# EAGLE library part WE-RJ45_7498111120AR (library WE-RJ45_LAN)
WE-RJ45 LAN Transformer Characteristics RJ45 Connector with integrated transformer / common mode choke Power over Ethernet up to 50 Watt and speeds up to 10 Gbit/s Available in SMD, THT and THT with USB Compliant with standards: IEEE 802.3u, IEEE 802.3ab, IEEE 802.3af, IEEE 802.3at, IEEE 802.3an and upcoming IEE 802.3bt Applications Suitable for industrial temperatures from –40 °C up to +85 °C Compatible to Industrial Ethernet systems like EtherCAT or Profinet Compliant with most IC’s for Ethernet applications such as Microchip, Texas Instruments, Broadcom, Linear Technology Hubs, Routers, Switches, IP cameras, IoT applications <https://www.we-online.com/components/media/o35731v209%20Family-WE-RJ45LAN-7499xxxxxx.jpg> Details see: www.we-online.com/components/products/WE-LAN-RJ45 <www.we-online.com/catalog/WE-LAN-RJ45/?utm_source=eagle_model&utm_medium=description_link&utm_campaign=eisos_eagle> Updated by Ella Wu 2019-08-05 2019 (C) Wurth Elektronik
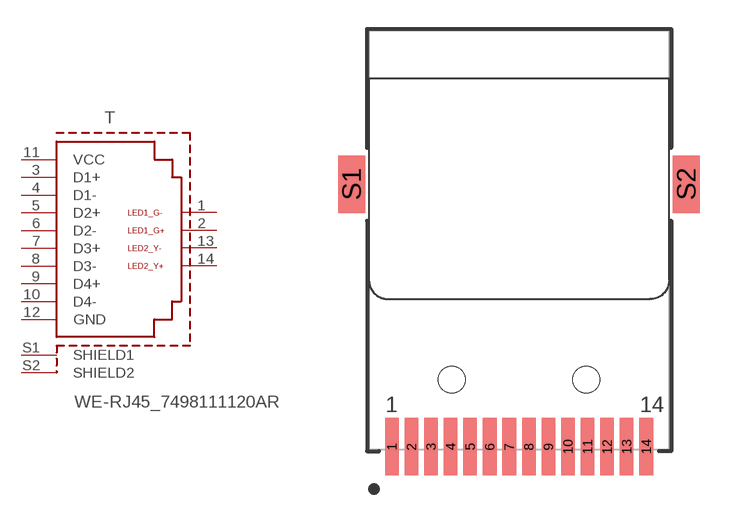
[diagram p54: symbol with the pads of 7498111120AR; footprint 7498111120AR]

Designator prefix T

## WE-RJ45_7498111120AR (DATA-RATE: 1000BASE-T; DATASHEET-URL: https://www.we-online.com/redexpert/spec/7498111120AR?ae; IMPROVED-CMRR: No; LED: yellow-green; MOUNT: SMT; OPERATING-TEMPERATURE: -40 °C up to +85 °C; PART-NUMBER: 7498111120AR; PHY-CHIP-MODE: current; POE: non-PoE; PORTS: 1; SHIELD-TABS: Yes; TAB: Up; USB: No; VALUE: 7498111120AR)  [7498111120AR]
1  LED1_G-  pas
2  LED1_G+  pas
3  D1+  pas
4  D1-  pas
5  D2+  pas
6  D2-  pas
7  D3+  pas
8  D3-  pas
9  D4+  pas
10  D4-  pas
11  VCC  pas
12  GND  pas
13  LED2_Y-  pas
14  LED2_Y+  pas
S1  SHIELD1  pas
S2  SHIELD2  pas

## Footprint 7498111120AR (pad centres in mm)
WE-RJ45 LAN Transformer 10/100/1000 Base-T
smd 0.71 x 3: 1 -6.63,-3.5; 2 -5.61,-3.5; 3 -4.59,-3.5; 4 -3.57,-3.5; 5 -2.55,-3.5; 6 -1.53,-3.5; 7 -0.51,-3.5; 8 0.51,-3.5; 9 1.53,-3.5; 10 2.55,-3.5; 11 3.57,-3.5; 12 4.59,-3.5; 13 5.61,-3.5; 14 6.63,-3.5
smd 1.4 x 3: S1 -8.725,10.2; S2 8.725,10.2
hole 1.4 at -3.5,0
hole 1.4 at 3.5,0